# Altium footprint library QFN50P800X800-57T610X610N.PCBLIB: 1 footprints
Each footprint in its own frame and in the unit in brackets; x right, y up, seen from the top. Pads: shape width x height; smd on the part's side, far side on the other; paste and mask are expansions set on the pad; w line width, h text height; cw(c..) or ccw(c..) is an arc to the next point about the centre after c.
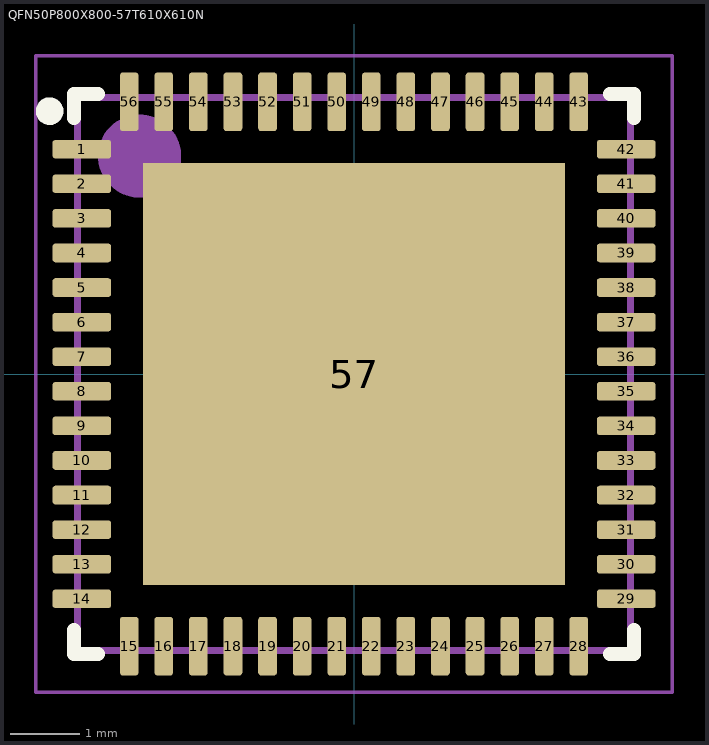
[diagram p0: the footprint, top view; thin cyan lines are the x and y axes]

## QFN50P800X800-57T610X610N [mm] "Quad Flat No-Lead (QFN with Tab), 0.50 mm pitch; square, 14 pin X 14 pin, 8.00 mm L X 8.00 mm W X 1.00 mm H body"
height 1
pads (57):
  rrect33% 0.85x0.27 smd: 1(-3.935,3.25) 2(-3.935,2.75) 3(-3.935,2.25) 4(-3.935,1.75) 5(-3.935,1.25) 6(-3.935,0.75) 7(-3.935,0.25) 8(-3.935,-0.25) 9(-3.935,-0.75) 10(-3.935,-1.25) 11(-3.935,-1.75) 12(-3.935,-2.25) 13(-3.935,-2.75) 14(-3.935,-3.25) 29(3.935,-3.25) 30(3.935,-2.75) 31(3.935,-2.25) 32(3.935,-1.75) 33(3.935,-1.25) 34(3.935,-0.75) 35(3.935,-0.25) 36(3.935,0.25) 37(3.935,0.75) 38(3.935,1.25) 39(3.935,1.75) 40(3.935,2.25) 41(3.935,2.75) 42(3.935,3.25)
  rrect33% 0.27x0.85 smd: 15(-3.25,-3.935) 16(-2.75,-3.935) 17(-2.25,-3.935) 18(-1.75,-3.935) 19(-1.25,-3.935) 20(-0.75,-3.935) 21(-0.25,-3.935) 22(0.25,-3.935) 23(0.75,-3.935) 24(1.25,-3.935) 25(1.75,-3.935) 26(2.25,-3.935) 27(2.75,-3.935) 28(3.25,-3.935) 43(3.25,3.935) 44(2.75,3.935) 45(2.25,3.935) 46(1.75,3.935) 47(1.25,3.935) 48(0.75,3.935) 49(0.25,3.935) 50(-0.25,3.935) 51(-0.75,3.935) 52(-1.25,3.935) 53(-1.75,3.935) 54(-2.25,3.935) 55(-2.75,3.935) 56(-3.25,3.935)
  rect 6.1x6.1 smd paste-6.1: 57(0,0)
Top Overlay:
  circle w0.2: c-4.4,3.8 r0.1
  lines w0.2: -4.05,-3.7 -4.05,-4.05 -3.7,-4.05 ; -4.05,3.7 -4.05,4.05 -3.7,4.05 ; 3.7,-4.05 4.05,-4.05 4.05,-3.7 ; 3.7,4.05 4.05,4.05 4.05,3.7
Top Paste:
  region: -2.76,-2.76 -2.76,-1.32 -1.32,-1.32 -1.32,-2.76
  region: -0.72,-2.76 -0.72,-1.32 0.72,-1.32 0.72,-2.76
  region: 1.32,-2.76 1.32,-1.32 2.76,-1.32 2.76,-2.76
  region: -2.76,-0.72 -2.76,0.72 -1.32,0.72 -1.32,-0.72
  region: -0.72,-0.72 -0.72,0.72 0.72,0.72 0.72,-0.72
  region: 1.32,-0.72 1.32,0.72 2.76,0.72 2.76,-0.72
  region: -2.76,1.32 -2.76,2.76 -1.32,2.76 -1.32,1.32
  region: -0.72,1.32 -0.72,2.76 0.72,2.76 0.72,1.32
  region: 1.32,1.32 1.32,2.76 2.76,2.76 2.76,1.32
Top Assembly:
  circle w0.6: c-3.1,3.15 r0.3
  lines w0.1: -4,-4 -4,4 4,4 4,-4 -4,-4
Top Courtyard:
  lines w0.05: -0.35,0 0.35,0 ; 0,-0.35 0,0.35 ; -4.6,-4.6 -4.6,4.6 4.6,4.6 4.6,-4.6 -4.6,-4.6
Top Designator:
  text ".Designator" at -0.5,-0.5 h1
Top Component Center:
  lines w0.1: -0.5,0 0.5,0 ; 0,-0.5 0,0.5
3D body "QFN50P800X800X100-57T610X610N.STEP": height 1, standoff 0, extent -4.05,-4.05 4.05,4.05